# Altium schematic symbol library 3G30A-2CELL.SchLib: 1 symbol
Pins are listed as number, name and electrical type; pins without a type are passive.

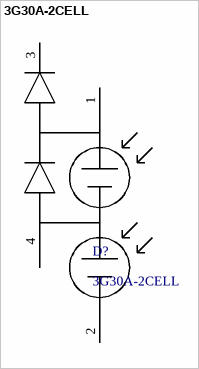
[diagram p0: symbol 3G30A-2CELL]

## 3G30A-2CELL
designator D?
Solar cell x2
pins: 1, 2, 3, 4